# EAGLE library part TERMBLK-6 (library m_connector)
6 Position Terminal Block
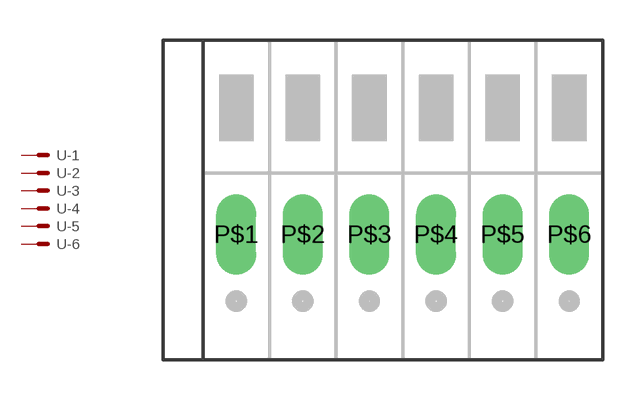
[diagram p19: symbol with the pads of PHOENIX_TERMINAL_BLOCK_PTSA_0,5/6-2,5-F; footprint PHOENIX_TERMINAL_BLOCK_PTSA_0,5/6-2,5-F]

Designator prefix -; gates -1=M -2=M -3=M -4=M -5=M -6=M

## TERMBLK-6PTSA_0,5/6-2,5-F (MANUF: Phoenix; PARTNUM: PTSA 0,5/ 6-2,5-F; VALUE: Phoenix PTSA)  [PHOENIX_TERMINAL_BLOCK_PTSA_0,5/6-2,5-F]
P$1  -1:S  pas
P$2  -2:S  pas
P$3  -3:S  pas
P$4  -4:S  pas
P$5  -5:S  pas
P$6  -6:S  pas

## Footprint PHOENIX_TERMINAL_BLOCK_PTSA_0,5/6-2,5-F (pad centres in mm)
Phoenix Contact PCB Terminal Block, 2.5mm Pitch, 6 Conductor Specifications: number of positions: 6 nominal current: 2 A nom. voltage: 250 V pitch: 2.5 mm connection method: Push-in spring connection mounting: Wave soldering conductor/PCB connection direction: 45° color: green Soldering legs in front area, single row Manufacturer Specification Page <https://www.phoenixcontact.com/online/portal/gb/?uri=pxc-oc-itemdetail:pid=1989780&library=gben&pcck=P-11-01-05&tab=1&selectedCategory=ALL> Octopart search <https://octopart.com/search?q=PTSA%200%2C5%2F%206-2%2C5-F> Added 2019-01-28 Updated footprint and keepout: 2019-09-04
drill 1 long: P$1 -6.25,0; P$2 -3.75,0; P$3 -1.25,0; P$4 1.25,0; P$5 3.75,0; P$6 6.25,0